# Altium footprint library UAVX.PcbLib: 2 footprints
Each footprint in its own frame and in the unit in brackets; x right, y up, seen from the top. Pads: shape width x height; smd on the part's side, far side on the other; paste and mask are expansions set on the pad; w line width, h text height; cw(c..) or ccw(c..) is an arc to the next point about the centre after c.
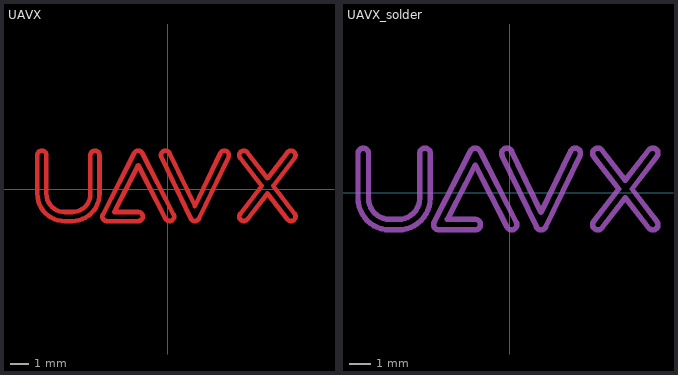
[diagram p0: the footprints below, top view; thin cyan lines are the x and y axes]

## UAVX [mm]
Top Layer:
  lines w0.254: -7.239,-0.265 ccw(c-5.726,-0.265) -5.726,-1.778 -5.314,-1.778 ccw(c-5.304,-0.265) -3.791,-0.265 -3.791,1.874 ccw(c-4.042,1.874) -4.293,1.874 -4.293,-0.265 cw(c-5.304,-0.265) -5.313,-1.276 -5.726,-1.276 cw(c-5.726,-0.265) -6.737,-0.265 -6.737,1.874 ccw(c-6.988,1.874) -7.239,1.874 -7.239,-0.265 ; -3.605,-1.412 ccw(c-3.381,-1.527) -3.381,-1.778 -1.643,-1.778 ccw(c-1.643,-1.527) -1.643,-1.276 -2.971,-1.276 -1.643,1.323 -0.128,-1.641 ccw(c0.095,-1.527) 0.319,-1.412 -1.419,1.989 ccw(c-1.643,1.874) -1.866,1.989 -3.605,-1.412 ; -0.358,1.766 cw(c-0.132,1.874) 0.095,1.983 1.5,-0.946 2.906,1.983 cw(c3.132,1.874) 3.358,1.766 1.726,-1.635 cw(c1.5,-1.527) 1.274,-1.635 -0.358,1.766 ; 4.012,-1.374 ccw(c4.21,-1.527) 4.409,-1.68 5.521,-0.238 6.632,-1.68 ccw(c6.831,-1.527) 7.03,-1.374 5.838,0.174 7.03,1.721 ccw(c6.831,1.874) 6.632,2.027 5.521,0.585 4.409,2.027 ccw(c4.21,1.874) 4.012,1.721 5.204,0.174 4.012,-1.374
Top Solder:
  rectangle: -8.255,-2.54 8.382,2.54

## UAVX_solder [mm]
Top Solder:
  lines w0.254: -7.239,-0.265 ccw(c-5.726,-0.265) -5.726,-1.778 -5.314,-1.778 ccw(c-5.304,-0.265) -3.791,-0.265 -3.791,1.874 ccw(c-4.042,1.874) -4.293,1.874 -4.293,-0.265 cw(c-5.304,-0.265) -5.313,-1.276 -5.726,-1.276 cw(c-5.726,-0.265) -6.737,-0.265 -6.737,1.874 ccw(c-6.988,1.874) -7.239,1.874 -7.239,-0.265 ; -3.605,-1.412 ccw(c-3.381,-1.527) -3.381,-1.778 -1.643,-1.778 ccw(c-1.643,-1.527) -1.643,-1.276 -2.971,-1.276 -1.643,1.323 -0.128,-1.641 ccw(c0.095,-1.527) 0.319,-1.412 -1.419,1.989 ccw(c-1.643,1.874) -1.866,1.989 -3.605,-1.412 ; -0.358,1.766 cw(c-0.132,1.874) 0.095,1.983 1.5,-0.946 2.906,1.983 cw(c3.132,1.874) 3.358,1.766 1.726,-1.635 cw(c1.5,-1.527) 1.274,-1.635 -0.358,1.766 ; 4.012,-1.374 ccw(c4.21,-1.527) 4.409,-1.68 5.521,-0.238 6.632,-1.68 ccw(c6.831,-1.527) 7.03,-1.374 5.838,0.174 7.03,1.721 ccw(c6.831,1.874) 6.632,2.027 5.521,0.585 4.409,2.027 ccw(c4.21,1.874) 4.012,1.721 5.204,0.174 4.012,-1.374